# Altium footprint library CAPACITOR.PcbLib: 23 footprints (part 2 of 2)
Each footprint in its own frame and in the unit in brackets; x right, y up, seen from the top. Pads: shape width x height; smd on the part's side, far side on the other; paste and mask are expansions set on the pad; w line width, h text height; cw(c..) or ccw(c..) is an arc to the next point about the centre after c.
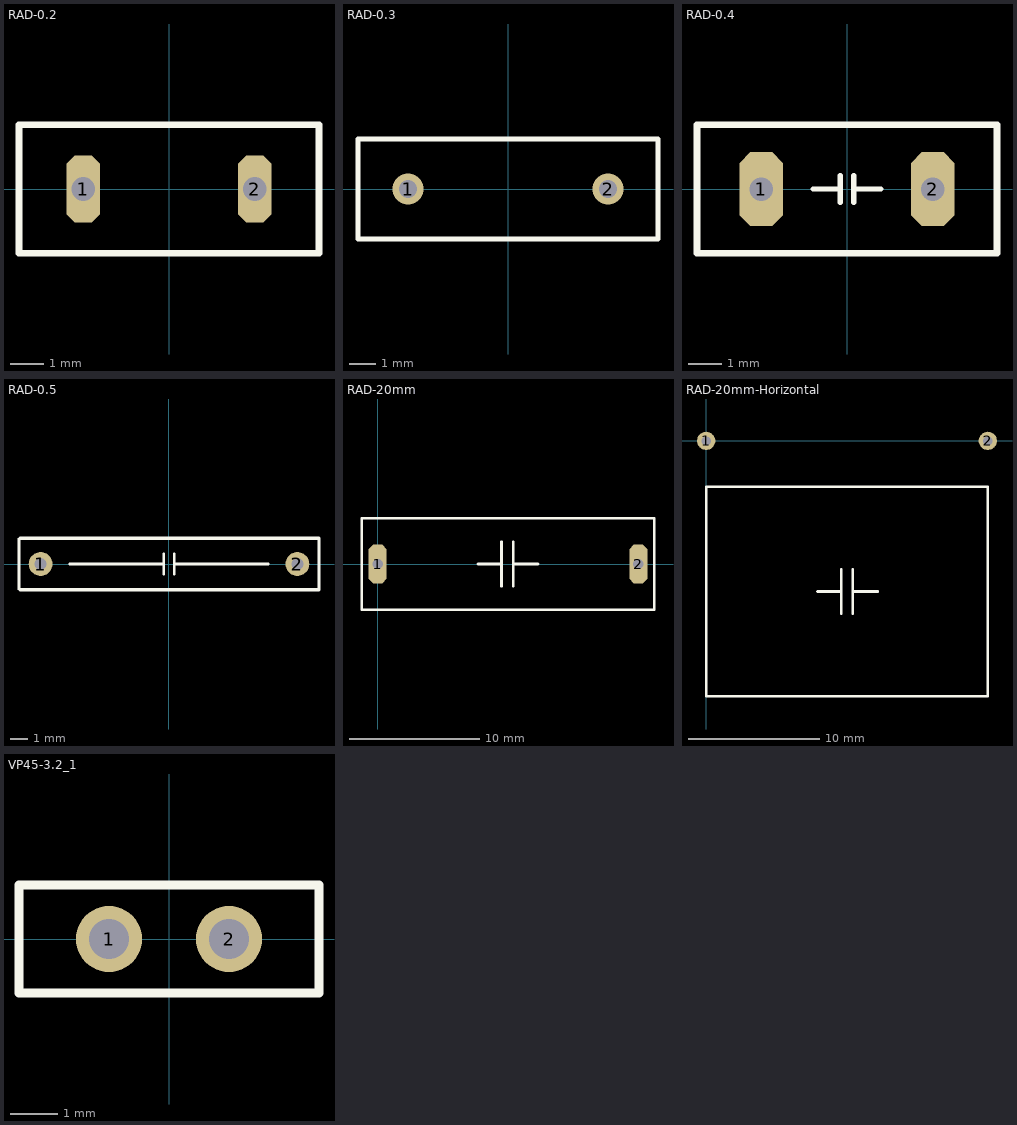
[diagram p1: the footprints below, top view; thin cyan lines are the x and y axes]

## RAD-0.2 [mm]
pads (2):
  oct 1x2 hole 0.7: 1(-2.54,0) 2(2.54,0)
Top Overlay:
  lines w0.2: -4.445,-1.905 4.445,-1.905 4.445,1.905 -4.445,1.905 -4.445,-1.905

## RAD-0.3 [mm]
height 6
pads (2):
  round 1.2 hole 0.7: 1(-3.81,0) 2(3.81,0)
Top Overlay:
  lines w0.2: -5.715,-1.905 -5.715,1.905 5.715,1.905 5.715,-1.905 -5.715,-1.905

## RAD-0.4 [mm]
pads (2):
  oct 1.3x2.2 hole 0.7: 1(-2.54,0) 2(2.54,0)
Top Overlay:
  lines w0.15: -1,0 -0.2,0 ; -0.2,-0.4 -0.2,0.4 ; 0.2,-0.4 0.2,0.4 ; 0.2,0 1,0
  lines w0.2: -4.445,1.905 -4.445,-1.9 4.445,-1.9 4.445,1.905 -4.44,1.905

## RAD-0.5 [mm]
pads (2):
  round 1.4 hole 0.7: 1(-7.5,0) 2(7.5,0)
Top Overlay:
  lines w0.15: -5.8,0 -0.3,0 ; -0.3,-0.6 -0.3,0.6 ; 0.3,-0.6 0.3,0.6 ; 0.3,0 5.8,0
  lines w0.2: -8.765,-1.435 -8.695,-1.505 8.765,-1.505 8.765,1.505 -8.695,1.505 -8.765,1.435 -8.765,-1.435

## RAD-20mm [mm]
pads (2):
  oct 1.4x3 hole 0.8: 1(0,0) 2(20,0)
Top Overlay:
  lines w0.2: -1.2,-3.5 21.2,-3.5 21.2,3.5 -1.2,3.5 -1.2,-3.5
  lines w0.203: 7.7,0 9.5,0 ; 9.5,-1.7 9.5,1.7 ; 10.4,-1.7 10.4,1.7 ; 10.5,0 12.3,0

## RAD-20mm-Horizontal [mm]
pads (2):
  round 1.4 hole 0.7: 1(0,0) 2(21.5,0)
Top Overlay:
  lines w0.203: 8.5,-11.5 10.3,-11.5 ; 10.3,-13.2 10.3,-9.8 ; 11.2,-13.2 11.2,-9.8 ; 11.3,-11.5 13.1,-11.5 ; 0,-19.5 21.5,-19.5 21.5,-3.5 0,-3.5 0,-19.5

## VP45-3.2_1 [mm] "Capacitor, Ceramic, Thru-Hole, Dipped Radial; Body 7.8 x 3.2 mm (WxT) Pin Spacing 5.08 mm (typ)"
height 6
pads (2):
  round 1.4 hole 0.85: 1(-1.27,0) 2(1.27,0)
Top Overlay:
  lines w0.2: -3.175,-1.143 3.175,-1.143 3.175,1.143 -3.175,1.143 -3.175,-1.143
3D body "SW3dPS-Cap 100n.STEP": height 6.92, standoff -1, extent -2.918,-0.848 2.921,0.848